# EAGLE library part OPTOCOUPLER-CNY74-4H (library tidyeagle)
4-Channel Phototransistor Optocoupler Transistor Optocoupler Datasheet: Full <http://www.vishay.com/docs/83526/83526.pdf> Not Tested.
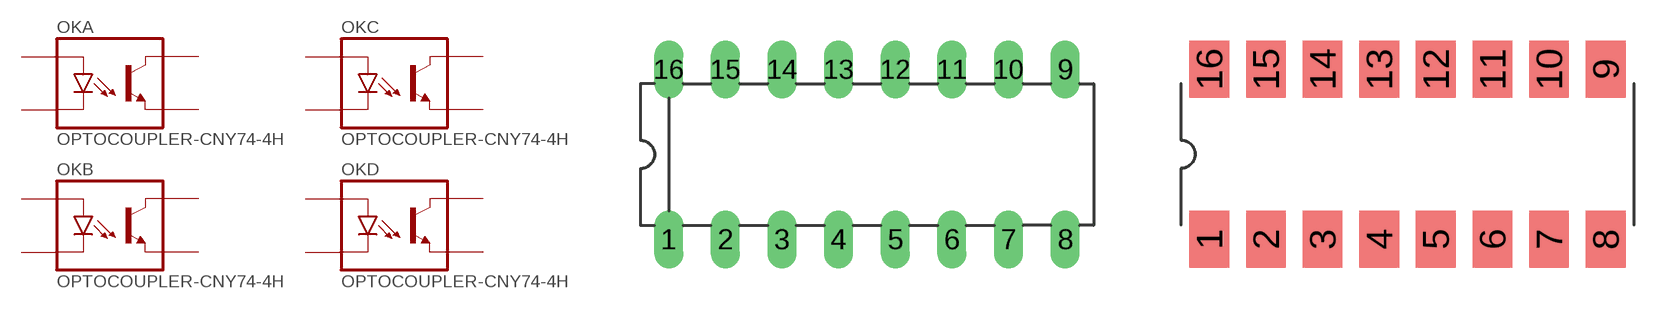
[diagram p7: symbol with the pads of DIL16-3; footprints DIL16-3, SMD16-3]

Designator prefix OK; gates A=OPTOCOUPLER-1-NPN B=OPTOCOUPLER-1-NPN C=OPTOCOUPLER-1-NPN D=OPTOCOUPLER-1-NPN

## OPTOCOUPLER-CNY74-4H-DIP16  [DIL16-3]
1  A:A1  pas
2  A:C1  pas
3  B:C1  pas
4  B:A1  pas
5  C:A1  pas
6  C:C1  pas
7  D:C1  pas
8  D:A1  pas
9  D:COLLECTOR1  pas
10  D:EMITTER1  pas
11  C:COLLECTOR1  pas
12  C:EMITTER1  pas
13  B:EMITTER1  pas
14  B:COLLECTOR1  pas
15  A:COLLECTOR1  pas
16  A:EMITTER1  pas

## OPTOCOUPLER-CNY74-4H-SMD16  [SMD16-3]
Pads as for DIL16-3

## Footprint DIL16-3 (pad centres in mm)
drill 0.8 long: 1 -8.89,-3.81; 2 -6.35,-3.81; 3 -3.81,-3.81; 4 -1.27,-3.81; 5 1.27,-3.81; 6 3.81,-3.81; 7 6.35,-3.81; 8 8.89,-3.81; 9 8.89,3.81; 10 6.35,3.81; 11 3.81,3.81; 12 1.27,3.81; 13 -1.27,3.81; 14 -3.81,3.81; 15 -6.35,3.81; 16 -8.89,3.81

## Footprint SMD16-3 (pad centres in mm)
SMD Mount DIP16 package. For those odd SMD components which are in every other way like the DIP equivalent, but have short, flat ended leads instead of long ones for TH mounting. Not Tested.
smd 1.778 x 2.54: 1 -8.89,-3.81; 2 -6.35,-3.81; 3 -3.81,-3.81; 4 -1.27,-3.81; 5 1.27,-3.81; 6 3.81,-3.81; 7 6.35,-3.81; 8 8.89,-3.81; 9 8.89,3.81; 10 6.35,3.81; 11 3.81,3.81; 12 1.27,3.81; 13 -1.27,3.81; 14 -3.81,3.81; 15 -6.35,3.81; 16 -8.89,3.81